# Altium schematic symbol library REB_MODE.SCHLIB: 2 symbols
Pins are listed as number, name and electrical type; pins without a type are passive.

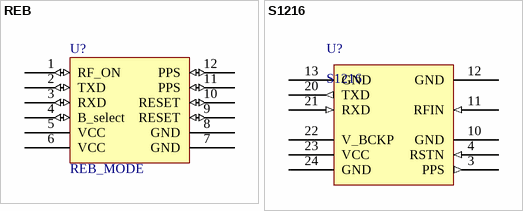
[diagram p0: symbols REB to S1216]

## REB
designator U?, comment REB_MODE
footprint REB_MODE
pins: 1 RF_ON (io), 2 TXD (io), 3 RXD (io), 4 B_select (io), 5 VCC (power), 6 VCC (power), 7 GND (power), 8 GND (power), 9 RESET (io), 10 RESET (io), 11 PPS (io), 12 PPS (io)

## S1216
designator U?
GPS MODULE
footprint S1216
pins: 3 PPS (out), 4 RSTN (in), 10 GND, 11 RFIN (in), 12 GND, 13 GND, 20 TXD (out), 21 RXD (in), 22 V_BCKP, 23 VCC, 24 GND